# Altium integrated library Diodes - TVS.IntLib: 5379 symbols (part 40 of 122)
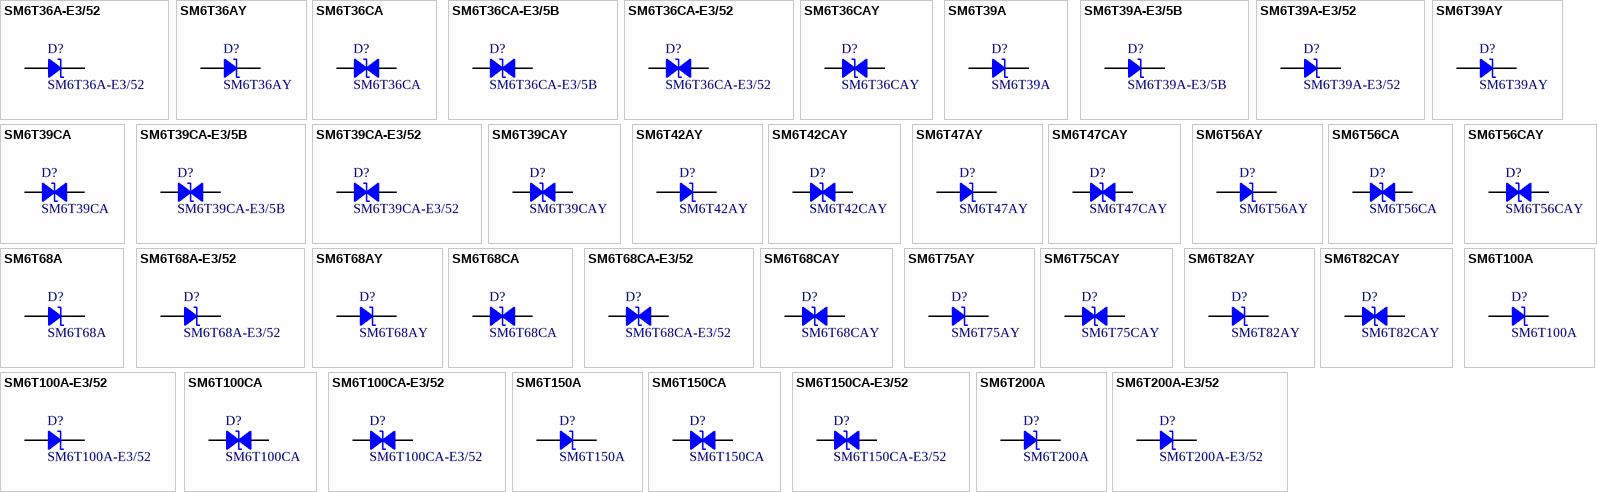
[diagram p173: symbols SM6T36A-E3/52 to SM6T200A-E3/52]

## SM6T39A
designator D?
TVS DIODE 33.3V 69.7V SMB; Manufacturer: STMicroelectronics; Current - Peak Pulse (10/1000µs): 57A (8/20µs); Power Line Protection: No; Power - Peak Pulse: 600W; Type: Zener; Unidirectional Channels: 1; Voltage - Breakdown (Min): 37.1V; Part Number: SM6T39A; Applications: General Purpose; ComponentLink1Description: Datasheet; ComponentLink1URL: http://www.st.com/content/ccc/resource/technical/document/datasheet/6f/2d/a6/9e/56/51/48/15/CD00000725.pdf/files/CD00000725.pdf/jcr:content/translations/en.CD00000725.pdf; ComponentLink2Description: DigiKey Link; ComponentLink2URL: http://digikey.com/product-detail/en/stmicroelectronics/SM6T39A/497-6497-1-ND/1865484; LastUpdated: 9/2/2020 1:19:49 AM; Lifecycle Status: Active; Minimum Order: 1; Mounting Type: Surface Mount; Operating Temperature: -55°C ~ 150°C (TJ); Package / Case: DO-214AA, SMB; Packaging: TapeAndReel; PartId: 11097; Part Status: Active; Price: 0.15; Series: SM6T, TRANSIL™; Supplier 1: DigiKey; Supplier Part Number 1: 497-6497-1-ND; Supplier Device Package: SMB (DO-214AA); Voltage - Clamping (Max) @ Ipp: 69.7V; Voltage - Reverse Standoff (Typ): 33.3V
footprint DO214AA SMB
pins: 1, 2

## SM6T39A-E3/5B
designator D?
TVS DIODE 33.3V 53.9V DO214AA; Manufacturer: Vishay Semiconductor Diodes Division; Current - Peak Pulse (10/1000µs): 11.1A; Power Line Protection: No; Power - Peak Pulse: 600W; Type: Zener; Unidirectional Channels: 1; Voltage - Breakdown (Min): 37.1V; Part Number: SM6T39A-E3/5B; Applications: General Purpose; ComponentLink1Description: Datasheet; ComponentLink1URL: http://www.vishay.com/docs/88385/sm6t.pdf; ComponentLink2Description: DigiKey Link; ComponentLink2URL: http://digikey.com/product-detail/en/vishay-semiconductor-diodes-division/SM6T39A-E3-5B/SM6T39A-E3-5BGICT-ND/9600946; LastUpdated: 9/2/2020 1:19:48 AM; Lifecycle Status: Active; Minimum Order: 1; Mounting Type: Surface Mount; Operating Temperature: -65°C ~ 150°C (TJ); Package / Case: DO-214AA, SMB; Packaging: TapeAndReel; PartId: 11076; Part Status: Active; Price: 0.13; Series: SM6T, TransZorb®; Supplier 1: DigiKey; Supplier Part Number 1: SM6T39A-E3/5BGICT-ND; Supplier Device Package: DO-214AA (SMBJ); Voltage - Clamping (Max) @ Ipp: 53.9V; Voltage - Reverse Standoff (Typ): 33.3V
footprint DO214AA SMB
pins: 1, 2

## SM6T39A-E3/52
designator D?
TVS DIODE 33.3V 53.9V DO214AA; Manufacturer: Vishay Semiconductor Diodes Division; Current - Peak Pulse (10/1000µs): 11.1A; Power Line Protection: No; Power - Peak Pulse: 600W; Type: Zener; Unidirectional Channels: 1; Voltage - Breakdown (Min): 37.1V; Part Number: SM6T39A-E3/52; Applications: General Purpose; ComponentLink1Description: Datasheet; ComponentLink1URL: http://www.vishay.com/docs/88385/sm6t.pdf; ComponentLink2Description: DigiKey Link; ComponentLink2URL: http://digikey.com/product-detail/en/vishay-semiconductor-diodes-division/SM6T39A-E3-52/SM6T39A-E3-52GICT-ND/5639140; LastUpdated: 9/2/2020 1:19:43 AM; Lifecycle Status: Active; Minimum Order: 1; Mounting Type: Surface Mount; Operating Temperature: -65°C ~ 150°C (TJ); Package / Case: DO-214AA, SMB; Packaging: TapeAndReel; PartId: 10594; Part Status: Active; Price: 0.19; Series: SM6T, TransZorb®; Supplier 1: DigiKey; Supplier Part Number 1: SM6T39A-E3/52GICT-ND; Supplier Device Package: DO-214AA (SMBJ); Voltage - Clamping (Max) @ Ipp: 53.9V; Voltage - Reverse Standoff (Typ): 33.3V
footprint DO214AA SMB
pins: 1, 2

## SM6T39AY
designator D?
TVS DIODE 33.3V 69.7V SMB; Manufacturer: STMicroelectronics; Current - Peak Pulse (10/1000µs): 57A (8/20µs); Power Line Protection: No; Power - Peak Pulse: 600W; Type: Zener; Unidirectional Channels: 1; Voltage - Breakdown (Min): 37.1V; Part Number: SM6T39AY; Applications: Automotive; ComponentLink1Description: Datasheet; ComponentLink1URL: http://www.st.com/content/ccc/resource/technical/document/datasheet/7c/00/1c/38/a4/c1/4b/ae/CD00279657.pdf/files/CD00279657.pdf/jcr:content/translations/en.CD00279657.pdf; ComponentLink2Description: DigiKey Link; ComponentLink2URL: http://digikey.com/product-detail/en/stmicroelectronics/SM6T39AY/497-10805-1-ND/2442980; LastUpdated: 9/2/2020 1:19:48 AM; Lifecycle Status: Active; Minimum Order: 1; Mounting Type: Surface Mount; Operating Temperature: -55°C ~ 150°C (TJ); Package / Case: DO-214AA, SMB; Packaging: TapeAndReel; PartId: 11003; Part Status: Active; Price: 0.37; Series: Automotive, AEC-Q101, SM6TY, TRANSIL™; Supplier 1: DigiKey; Supplier Part Number 1: 497-10805-1-ND; Supplier Device Package: SMB (DO-214AA); Voltage - Clamping (Max) @ Ipp: 69.7V; Voltage - Reverse Standoff (Typ): 33.3V
footprint DO214AA SMB
pins: 1, 2

## SM6T39CA
designator D?
TVS DIODE 33.3V 69.7V SMB; Manufacturer: STMicroelectronics; Bidirectional Channels: 1; Current - Peak Pulse (10/1000µs): 57A (8/20µs); Power Line Protection: No; Power - Peak Pulse: 600W; Type: Zener; Voltage - Breakdown (Min): 37.1V; Part Number: SM6T39CA; Applications: General Purpose; ComponentLink1Description: Datasheet; ComponentLink1URL: http://www.st.com/content/ccc/resource/technical/document/datasheet/6f/2d/a6/9e/56/51/48/15/CD00000725.pdf/files/CD00000725.pdf/jcr:content/translations/en.CD00000725.pdf; ComponentLink2Description: DigiKey Link; ComponentLink2URL: http://digikey.com/product-detail/en/stmicroelectronics/SM6T39CA/497-6498-1-ND/1865512; LastUpdated: 9/2/2020 1:28:21 AM; Lifecycle Status: Active; Minimum Order: 1; Mounting Type: Surface Mount; Operating Temperature: -55°C ~ 150°C (TJ); Package / Case: DO-214AA, SMB; Packaging: TapeAndReel; PartId: 9522; Part Status: Active; Price: 0.16; Series: SM6T, TRANSIL™; Supplier 1: DigiKey; Supplier Part Number 1: 497-6498-1-ND; Supplier Device Package: SMB (DO-214AA); Voltage - Clamping (Max) @ Ipp: 69.7V; Voltage - Reverse Standoff (Typ): 33.3V
footprint DO214AA SMB
pins: 1, 2

## SM6T39CA-E3/5B
designator D?
TVS DIODE 33.3V 53.9V DO214AA; Manufacturer: Vishay Semiconductor Diodes Division; Bidirectional Channels: 1; Current - Peak Pulse (10/1000µs): 11.1A; Power Line Protection: No; Power - Peak Pulse: 600W; Type: Zener; Voltage - Breakdown (Min): 37.1V; Part Number: SM6T39CA-E3/5B; Applications: General Purpose; ComponentLink1Description: Datasheet; ComponentLink1URL: http://www.vishay.com/docs/88385/sm6t.pdf; ComponentLink2Description: DigiKey Link; ComponentLink2URL: http://digikey.com/product-detail/en/vishay-semiconductor-diodes-division/SM6T39CA-E3-5B/SM6T39CA-E3-5BGICT-ND/9600947; LastUpdated: 9/2/2020 1:28:19 AM; Lifecycle Status: Active; Minimum Order: 1; Mounting Type: Surface Mount; Operating Temperature: -65°C ~ 150°C (TJ); Package / Case: DO-214AA, SMB; Packaging: TapeAndReel; PartId: 9327; Part Status: Active; Price: 0.14; Series: SM6T, TransZorb®; Supplier 1: DigiKey; Supplier Part Number 1: SM6T39CA-E3/5BGICT-ND; Supplier Device Package: DO-214AA (SMBJ); Voltage - Clamping (Max) @ Ipp: 53.9V; Voltage - Reverse Standoff (Typ): 33.3V
footprint DO214AA SMB
pins: 1, 2

## SM6T39CA-E3/52
designator D?
TVS DIODE 33.3V 53.9V DO214AA; Manufacturer: Vishay Semiconductor Diodes Division; Bidirectional Channels: 1; Current - Peak Pulse (10/1000µs): 11.1A; Power Line Protection: No; Power - Peak Pulse: 600W; Type: Zener; Voltage - Breakdown (Min): 37.1V; Part Number: SM6T39CA-E3/52; Applications: General Purpose; ComponentLink1Description: Datasheet; ComponentLink1URL: http://www.vishay.com/docs/88385/sm6t.pdf; ComponentLink2Description: DigiKey Link; ComponentLink2URL: http://digikey.com/product-detail/en/vishay-semiconductor-diodes-division/SM6T39CA-E3-52/SM6T39CA-E3-52GICT-ND/3711943; LastUpdated: 9/2/2020 1:28:16 AM; Lifecycle Status: Active; Minimum Order: 1; Mounting Type: Surface Mount; Operating Temperature: -65°C ~ 150°C (TJ); Package / Case: DO-214AA, SMB; Packaging: TapeAndReel; PartId: 8924; Part Status: Active; Price: 0.21; Series: SM6T, TransZorb®; Supplier 1: DigiKey; Supplier Part Number 1: SM6T39CA-E3/52GICT-ND; Supplier Device Package: DO-214AA (SMBJ); Voltage - Clamping (Max) @ Ipp: 53.9V; Voltage - Reverse Standoff (Typ): 33.3V
footprint DO214AA SMB
pins: 1, 2

## SM6T39CAY
designator D?
TVS DIODE 33.3V 69.7V SMB; Manufacturer: STMicroelectronics; Bidirectional Channels: 1; Current - Peak Pulse (10/1000µs): 57A (8/20µs); Power Line Protection: No; Power - Peak Pulse: 600W; Type: Zener; Voltage - Breakdown (Min): 37.1V; Part Number: SM6T39CAY; Applications: Automotive; ComponentLink1Description: Datasheet; ComponentLink1URL: http://www.st.com/content/ccc/resource/technical/document/datasheet/7c/00/1c/38/a4/c1/4b/ae/CD00279657.pdf/files/CD00279657.pdf/jcr:content/translations/en.CD00279657.pdf; ComponentLink2Description: DigiKey Link; ComponentLink2URL: http://digikey.com/product-detail/en/stmicroelectronics/SM6T39CAY/497-10806-1-ND/2442959; LastUpdated: 9/2/2020 1:28:21 AM; Lifecycle Status: Active; Minimum Order: 1; Mounting Type: Surface Mount; Operating Temperature: -55°C ~ 150°C (TJ); Package / Case: DO-214AA, SMB; Packaging: TapeAndReel; PartId: 9564; Part Status: Active; Price: 0.39; Series: Automotive, AEC-Q101, SM6TY, TRANSIL™; Supplier 1: DigiKey; Supplier Part Number 1: 497-10806-1-ND; Supplier Device Package: SMB (DO-214AA); Voltage - Clamping (Max) @ Ipp: 69.7V; Voltage - Reverse Standoff (Typ): 33.3V
footprint DO214AA SMB
pins: 1, 2

## SM6T42AY
designator D?
TVS DIODE 36V 76V SMB; Manufacturer: STMicroelectronics; Current - Peak Pulse (10/1000µs): 52A (8/20µs); Power Line Protection: No; Power - Peak Pulse: 600W; Type: Zener; Unidirectional Channels: 1; Voltage - Breakdown (Min): 40V; Part Number: SM6T42AY; Applications: Automotive; ComponentLink1Description: Datasheet; ComponentLink1URL: http://www.st.com/content/ccc/resource/technical/document/datasheet/7c/00/1c/38/a4/c1/4b/ae/CD00279657.pdf/files/CD00279657.pdf/jcr:content/translations/en.CD00279657.pdf; ComponentLink2Description: DigiKey Link; ComponentLink2URL: http://digikey.com/product-detail/en/stmicroelectronics/SM6T42AY/497-11809-1-ND/2756549; LastUpdated: 9/2/2020 1:19:46 AM; Lifecycle Status: Active; Minimum Order: 1; Mounting Type: Surface Mount; Operating Temperature: -55°C ~ 150°C (TJ); Package / Case: DO-214AA, SMB; Packaging: TapeAndReel; PartId: 10848; Part Status: Active; Price: 0.23; Series: Automotive, AEC-Q101, SM6TY, TRANSIL™; Supplier 1: DigiKey; Supplier Part Number 1: 497-11809-1-ND; Supplier Device Package: SMB (DO-214AA); Voltage - Clamping (Max) @ Ipp: 76V; Voltage - Reverse Standoff (Typ): 36V
footprint DO214AA SMB
pins: 1, 2

## SM6T42CAY
designator D?
TVS DIODE 36V 76V SMB; Manufacturer: STMicroelectronics; Bidirectional Channels: 1; Current - Peak Pulse (10/1000µs): 52A (8/20µs); Power Line Protection: No; Power - Peak Pulse: 600W; Type: Zener; Voltage - Breakdown (Min): 40V; Part Number: SM6T42CAY; Applications: Automotive; ComponentLink1Description: Datasheet; ComponentLink1URL: http://www.st.com/content/ccc/resource/technical/document/datasheet/7c/00/1c/38/a4/c1/4b/ae/CD00279657.pdf/files/CD00279657.pdf/jcr:content/translations/en.CD00279657.pdf; ComponentLink2Description: DigiKey Link; ComponentLink2URL: http://digikey.com/product-detail/en/stmicroelectronics/SM6T42CAY/497-12193-1-ND/2826666; LastUpdated: 9/2/2020 1:28:22 AM; Lifecycle Status: Active; Minimum Order: 1; Mounting Type: Surface Mount; Operating Temperature: -55°C ~ 150°C (TJ); Package / Case: DO-214AA, SMB; Packaging: TapeAndReel; PartId: 9680; Part Status: Active; Price: 0.22; Series: Automotive, AEC-Q101, SM6TY, TRANSIL™; Supplier 1: DigiKey; Supplier Part Number 1: 497-12193-1-ND; Supplier Device Package: SMB (DO-214AA); Voltage - Clamping (Max) @ Ipp: 76V; Voltage - Reverse Standoff (Typ): 36V
footprint DO214AA SMB
pins: 1, 2

## SM6T47AY
designator D?
TVS DIODE 40V 84V SMB; Manufacturer: STMicroelectronics; Current - Peak Pulse (10/1000µs): 48A (8/20µs); Power Line Protection: No; Power - Peak Pulse: 600W; Type: Zener; Unidirectional Channels: 1; Voltage - Breakdown (Min): 44.4V; Part Number: SM6T47AY; Applications: Automotive; ComponentLink1Description: Datasheet; ComponentLink1URL: http://www.st.com/content/ccc/resource/technical/document/datasheet/7c/00/1c/38/a4/c1/4b/ae/CD00279657.pdf/files/CD00279657.pdf/jcr:content/translations/en.CD00279657.pdf; ComponentLink2Description: DigiKey Link; ComponentLink2URL: http://digikey.com/product-detail/en/stmicroelectronics/SM6T47AY/497-12194-1-ND/2826667; LastUpdated: 9/2/2020 1:19:43 AM; Lifecycle Status: Active; Minimum Order: 1; Mounting Type: Surface Mount; Operating Temperature: -55°C ~ 150°C (TJ); Package / Case: DO-214AA, SMB; Packaging: TapeAndReel; PartId: 10539; Part Status: Active; Price: 0.20; Series: Automotive, AEC-Q101, SM6TY, TRANSIL™; Supplier 1: DigiKey; Supplier Part Number 1: 497-12194-1-ND; Supplier Device Package: SMB (DO-214AA); Voltage - Clamping (Max) @ Ipp: 84V; Voltage - Reverse Standoff (Typ): 40V
footprint DO214AA SMB
pins: 1, 2

## SM6T47CAY
designator D?
TVS DIODE 40V 84V SMB; Manufacturer: STMicroelectronics; Bidirectional Channels: 1; Current - Peak Pulse (10/1000µs): 48A (8/20µs); Power Line Protection: No; Power - Peak Pulse: 600W; Type: Zener; Voltage - Breakdown (Min): 44.4V; Part Number: SM6T47CAY; Applications: Automotive; ComponentLink1Description: Datasheet; ComponentLink1URL: http://www.st.com/content/ccc/resource/technical/document/datasheet/7c/00/1c/38/a4/c1/4b/ae/CD00279657.pdf/files/CD00279657.pdf/jcr:content/translations/en.CD00279657.pdf; ComponentLink2Description: DigiKey Link; ComponentLink2URL: http://digikey.com/product-detail/en/stmicroelectronics/SM6T47CAY/497-12195-1-ND/2826668; LastUpdated: 9/2/2020 1:28:17 AM; Lifecycle Status: Active; Minimum Order: 1; Mounting Type: Surface Mount; Operating Temperature: -55°C ~ 150°C (TJ); Package / Case: DO-214AA, SMB; Packaging: TapeAndReel; PartId: 9042; Part Status: Active; Price: 0.22; Series: Automotive, AEC-Q101, SM6TY, TRANSIL™; Supplier 1: DigiKey; Supplier Part Number 1: 497-12195-1-ND; Supplier Device Package: SMB (DO-214AA); Voltage - Clamping (Max) @ Ipp: 84V; Voltage - Reverse Standoff (Typ): 40V
footprint DO214AA SMB
pins: 1, 2

## SM6T56AY
designator D?
TVS DIODE 47.6V 100V SMB; Manufacturer: STMicroelectronics; Current - Peak Pulse (10/1000µs): 40A (8/20µs); Power Line Protection: No; Power - Peak Pulse: 600W; Type: Zener; Unidirectional Channels: 1; Voltage - Breakdown (Min): 53.2V; Part Number: SM6T56AY; Applications: Automotive; ComponentLink1Description: Datasheet; ComponentLink1URL: http://www.st.com/content/ccc/resource/technical/document/datasheet/7c/00/1c/38/a4/c1/4b/ae/CD00279657.pdf/files/CD00279657.pdf/jcr:content/translations/en.CD00279657.pdf; ComponentLink2Description: DigiKey Link; ComponentLink2URL: http://digikey.com/product-detail/en/stmicroelectronics/SM6T56AY/497-11810-1-ND/2756550; LastUpdated: 9/2/2020 1:19:46 AM; Lifecycle Status: Active; Minimum Order: 1; Mounting Type: Surface Mount; Operating Temperature: -55°C ~ 150°C (TJ); Package / Case: DO-214AA, SMB; Packaging: TapeAndReel; PartId: 10825; Part Status: Active; Price: 0.23; Series: Automotive, AEC-Q101, SM6TY, TRANSIL™; Supplier 1: DigiKey; Supplier Part Number 1: 497-11810-1-ND; Supplier Device Package: SMB (DO-214AA); Voltage - Clamping (Max) @ Ipp: 100V; Voltage - Reverse Standoff (Typ): 47.6V
footprint DO214AA SMB
pins: 1, 2

## SM6T56CA
designator D?
TVS DIODE 47.6V 100V SMB; Manufacturer: STMicroelectronics; Bidirectional Channels: 1; Current - Peak Pulse (10/1000µs): 40A (8/20µs); Power Line Protection: No; Power - Peak Pulse: 600W; Type: Zener; Voltage - Breakdown (Min): 53.2V; Part Number: SM6T56CA; Applications: General Purpose; ComponentLink1Description: Datasheet; ComponentLink1URL: http://www.st.com/content/ccc/resource/technical/document/datasheet/6f/2d/a6/9e/56/51/48/15/CD00000725.pdf/files/CD00000725.pdf/jcr:content/translations/en.CD00000725.pdf; ComponentLink2Description: DigiKey Link; ComponentLink2URL: http://digikey.com/product-detail/en/stmicroelectronics/SM6T56CA/497-6499-1-ND/1865522; LastUpdated: 9/2/2020 1:28:16 AM; Lifecycle Status: Active; Minimum Order: 1; Mounting Type: Surface Mount; Operating Temperature: -55°C ~ 150°C (TJ); Package / Case: DO-214AA, SMB; Packaging: TapeAndReel; PartId: 8961; Part Status: Active; Price: 0.16; Series: SM6T, TRANSIL™; Supplier 1: DigiKey; Supplier Part Number 1: 497-6499-1-ND; Supplier Device Package: SMB (DO-214AA); Voltage - Clamping (Max) @ Ipp: 100V; Voltage - Reverse Standoff (Typ): 47.6V
footprint DO214AA SMB
pins: 1, 2

## SM6T56CAY
designator D?
TVS DIODE 47.6V 100V SMB; Manufacturer: STMicroelectronics; Bidirectional Channels: 1; Current - Peak Pulse (10/1000µs): 40A (8/20µs); Power Line Protection: No; Power - Peak Pulse: 600W; Type: Zener; Voltage - Breakdown (Min): 53.2V; Part Number: SM6T56CAY; Applications: Automotive; ComponentLink1Description: Datasheet; ComponentLink1URL: http://www.st.com/content/ccc/resource/technical/document/datasheet/7c/00/1c/38/a4/c1/4b/ae/CD00279657.pdf/files/CD00279657.pdf/jcr:content/translations/en.CD00279657.pdf; ComponentLink2Description: DigiKey Link; ComponentLink2URL: http://digikey.com/product-detail/en/stmicroelectronics/SM6T56CAY/497-11811-1-ND/2756544; LastUpdated: 9/2/2020 1:28:18 AM; Lifecycle Status: Active; Minimum Order: 1; Mounting Type: Surface Mount; Operating Temperature: -55°C ~ 150°C (TJ); Package / Case: DO-214AA, SMB; Packaging: TapeAndReel; PartId: 9163; Part Status: Active; Price: 0.24; Series: Automotive, AEC-Q101, SM6TY, TRANSIL™; Supplier 1: DigiKey; Supplier Part Number 1: 497-11811-1-ND; Supplier Device Package: SMB (DO-214AA); Voltage - Clamping (Max) @ Ipp: 100V; Voltage - Reverse Standoff (Typ): 47.6V
footprint DO214AA SMB
pins: 1, 2

## SM6T68A
designator D?
TVS DIODE 58.1V 121V SMB; Manufacturer: STMicroelectronics; Current - Peak Pulse (10/1000µs): 33A (8/20µs); Power Line Protection: No; Power - Peak Pulse: 600W; Type: Zener; Unidirectional Channels: 1; Voltage - Breakdown (Min): 64.6V; Part Number: SM6T68A; Applications: General Purpose; ComponentLink1Description: Datasheet; ComponentLink1URL: http://www.st.com/content/ccc/resource/technical/document/datasheet/6f/2d/a6/9e/56/51/48/15/CD00000725.pdf/files/CD00000725.pdf/jcr:content/translations/en.CD00000725.pdf; ComponentLink2Description: DigiKey Link; ComponentLink2URL: http://digikey.com/product-detail/en/stmicroelectronics/SM6T68A/497-7438-1-ND/1883413; LastUpdated: 9/2/2020 1:19:47 AM; Lifecycle Status: Active; Minimum Order: 1; Mounting Type: Surface Mount; Operating Temperature: -55°C ~ 150°C (TJ); Package / Case: DO-214AA, SMB; Packaging: TapeAndReel; PartId: 10928; Part Status: Active; Price: 0.15; Series: SM6T, TRANSIL™; Supplier 1: DigiKey; Supplier Part Number 1: 497-7438-1-ND; Supplier Device Package: SMB (DO-214AA); Voltage - Clamping (Max) @ Ipp: 121V; Voltage - Reverse Standoff (Typ): 58.1V
footprint DO214AA SMB
pins: 1, 2

## SM6T68A-E3/52
designator D?
TVS DIODE 58.1V 92V DO214AA; Manufacturer: Vishay Semiconductor Diodes Division; Current - Peak Pulse (10/1000µs): 6.5A; Power Line Protection: No; Power - Peak Pulse: 600W; Type: Zener; Unidirectional Channels: 1; Voltage - Breakdown (Min): 64.6V; Part Number: SM6T68A-E3/52; Applications: General Purpose; ComponentLink1Description: Datasheet; ComponentLink1URL: http://www.vishay.com/docs/88385/sm6t.pdf; ComponentLink2Description: DigiKey Link; ComponentLink2URL: http://digikey.com/product-detail/en/vishay-semiconductor-diodes-division/SM6T68A-E3-52/SM6T68A-E3-52GICT-ND/5639141; LastUpdated: 9/2/2020 1:19:43 AM; Lifecycle Status: Active; Minimum Order: 1; Mounting Type: Surface Mount; Operating Temperature: -65°C ~ 150°C (TJ); Package / Case: DO-214AA, SMB; Packaging: TapeAndReel; PartId: 10592; Part Status: Active; Price: 0.19; Series: SM6T, TransZorb®; Supplier 1: DigiKey; Supplier Part Number 1: SM6T68A-E3/52GICT-ND; Supplier Device Package: DO-214AA (SMBJ); Voltage - Clamping (Max) @ Ipp: 92V; Voltage - Reverse Standoff (Typ): 58.1V
footprint DO214AA SMB
pins: 1, 2

## SM6T68AY
designator D?
TVS DIODE 58.1V 121V SMB; Manufacturer: STMicroelectronics; Current - Peak Pulse (10/1000µs): 33A (8/20µs); Power Line Protection: No; Power - Peak Pulse: 600W; Type: Zener; Unidirectional Channels: 1; Voltage - Breakdown (Min): 64.6V; Part Number: SM6T68AY; Applications: Automotive; ComponentLink1Description: Datasheet; ComponentLink1URL: http://www.st.com/content/ccc/resource/technical/document/datasheet/7c/00/1c/38/a4/c1/4b/ae/CD00279657.pdf/files/CD00279657.pdf/jcr:content/translations/en.CD00279657.pdf; ComponentLink2Description: DigiKey Link; ComponentLink2URL: http://digikey.com/product-detail/en/stmicroelectronics/SM6T68AY/497-10937-1-ND/2522560; LastUpdated: 9/2/2020 1:19:50 AM; Lifecycle Status: Active; Minimum Order: 1; Mounting Type: Surface Mount; Operating Temperature: -55°C ~ 150°C (TJ); Package / Case: DO-214AA, SMB; Packaging: TapeAndReel; PartId: 11277; Part Status: Active; Price: 0.39; Series: Automotive, AEC-Q101, SM6TY, TRANSIL™; Supplier 1: DigiKey; Supplier Part Number 1: 497-10937-1-ND; Supplier Device Package: SMB (DO-214AA); Voltage - Clamping (Max) @ Ipp: 121V; Voltage - Reverse Standoff (Typ): 58.1V
footprint DO214AA SMB
pins: 1, 2

## SM6T68CA
designator D?
TVS DIODE 58.1V 121V SMB; Manufacturer: STMicroelectronics; Bidirectional Channels: 1; Current - Peak Pulse (10/1000µs): 33A (8/20µs); Power Line Protection: No; Power - Peak Pulse: 600W; Type: Zener; Voltage - Breakdown (Min): 64.6V; Part Number: SM6T68CA; Applications: General Purpose; ComponentLink1Description: Datasheet; ComponentLink1URL: http://www.st.com/content/ccc/resource/technical/document/datasheet/6f/2d/a6/9e/56/51/48/15/CD00000725.pdf/files/CD00000725.pdf/jcr:content/translations/en.CD00000725.pdf; ComponentLink2Description: DigiKey Link; ComponentLink2URL: http://digikey.com/product-detail/en/stmicroelectronics/SM6T68CA/497-6500-1-ND/1865514; LastUpdated: 9/2/2020 1:28:21 AM; Lifecycle Status: Active; Minimum Order: 1; Mounting Type: Surface Mount; Operating Temperature: -55°C ~ 150°C (TJ); Package / Case: DO-214AA, SMB; Packaging: TapeAndReel; PartId: 9523; Part Status: Active; Price: 0.16; Series: SM6T, TRANSIL™; Supplier 1: DigiKey; Supplier Part Number 1: 497-6500-1-ND; Supplier Device Package: SMB (DO-214AA); Voltage - Clamping (Max) @ Ipp: 121V; Voltage - Reverse Standoff (Typ): 58.1V
footprint DO214AA SMB
pins: 1, 2

## SM6T68CA-E3/52
designator D?
TVS DIODE 58.1V 92V DO214AA; Manufacturer: Vishay Semiconductor Diodes Division; Bidirectional Channels: 1; Current - Peak Pulse (10/1000µs): 6.5A; Power Line Protection: No; Power - Peak Pulse: 600W; Type: Zener; Voltage - Breakdown (Min): 64.6V; Part Number: SM6T68CA-E3/52; Applications: General Purpose; ComponentLink1Description: Datasheet; ComponentLink1URL: http://www.vishay.com/docs/88385/sm6t.pdf; ComponentLink2Description: DigiKey Link; ComponentLink2URL: http://digikey.com/product-detail/en/vishay-semiconductor-diodes-division/SM6T68CA-E3-52/SM6T68CA-E3-52GICT-ND/5639142; LastUpdated: 9/2/2020 1:28:22 AM; Lifecycle Status: Active; Minimum Order: 1; Mounting Type: Surface Mount; Operating Temperature: -65°C ~ 150°C (TJ); Package / Case: DO-214AA, SMB; Packaging: TapeAndReel; PartId: 9682; Part Status: Active; Price: 0.22; Series: SM6T, TransZorb®; Supplier 1: DigiKey; Supplier Part Number 1: SM6T68CA-E3/52GICT-ND; Supplier Device Package: DO-214AA (SMBJ); Voltage - Clamping (Max) @ Ipp: 92V; Voltage - Reverse Standoff (Typ): 58.1V
footprint DO214AA SMB
pins: 1, 2

## SM6T68CAY
designator D?
TVS DIODE 58.1V 121V SMB; Manufacturer: STMicroelectronics; Bidirectional Channels: 1; Current - Peak Pulse (10/1000µs): 33A (8/20µs); Power Line Protection: No; Power - Peak Pulse: 600W; Type: Zener; Voltage - Breakdown (Min): 64.6V; Part Number: SM6T68CAY; Applications: Automotive; ComponentLink1Description: Datasheet; ComponentLink1URL: http://www.st.com/content/ccc/resource/technical/document/datasheet/7c/00/1c/38/a4/c1/4b/ae/CD00279657.pdf/files/CD00279657.pdf/jcr:content/translations/en.CD00279657.pdf; ComponentLink2Description: DigiKey Link; ComponentLink2URL: http://digikey.com/product-detail/en/stmicroelectronics/SM6T68CAY/497-10807-1-ND/2442962; LastUpdated: 9/2/2020 1:28:18 AM; Lifecycle Status: Active; Minimum Order: 1; Mounting Type: Surface Mount; Operating Temperature: -55°C ~ 150°C (TJ); Package / Case: DO-214AA, SMB; Packaging: TapeAndReel; PartId: 9156; Part Status: Active; Price: 0.39; Series: Automotive, AEC-Q101, SM6TY, TRANSIL™; Supplier 1: DigiKey; Supplier Part Number 1: 497-10807-1-ND; Supplier Device Package: SMB (DO-214AA); Voltage - Clamping (Max) @ Ipp: 121V; Voltage - Reverse Standoff (Typ): 58.1V
footprint DO214AA SMB
pins: 1, 2

## SM6T75AY
designator D?
TVS DIODE 64.1V 134V SMB; Manufacturer: STMicroelectronics; Current - Peak Pulse (10/1000µs): 30A (8/20µs); Power Line Protection: No; Power - Peak Pulse: 600W; Type: Zener; Unidirectional Channels: 1; Voltage - Breakdown (Min): 71.3V; Part Number: SM6T75AY; Applications: Automotive; ComponentLink1Description: Datasheet; ComponentLink1URL: http://www.st.com/content/ccc/resource/technical/document/datasheet/7c/00/1c/38/a4/c1/4b/ae/CD00279657.pdf/files/CD00279657.pdf/jcr:content/translations/en.CD00279657.pdf; ComponentLink2Description: DigiKey Link; ComponentLink2URL: http://digikey.com/product-detail/en/stmicroelectronics/SM6T75AY/497-11814-1-ND/2756554; LastUpdated: 9/2/2020 1:19:46 AM; Lifecycle Status: Active; Minimum Order: 1; Mounting Type: Surface Mount; Operating Temperature: -55°C ~ 150°C (TJ); Package / Case: DO-214AA, SMB; Packaging: TapeAndReel; PartId: 10824; Part Status: Active; Price: 0.23; Series: Automotive, AEC-Q101, SM6TY, TRANSIL™; Supplier 1: DigiKey; Supplier Part Number 1: 497-11814-1-ND; Supplier Device Package: SMB (DO-214AA); Voltage - Clamping (Max) @ Ipp: 134V; Voltage - Reverse Standoff (Typ): 64.1V
footprint DO214AA SMB
pins: 1, 2

## SM6T75CAY
designator D?
TVS DIODE 64.1V 134V SMB; Manufacturer: STMicroelectronics; Bidirectional Channels: 1; Current - Peak Pulse (10/1000µs): 30A (8/20µs); Power Line Protection: No; Power - Peak Pulse: 600W; Type: Zener; Voltage - Breakdown (Min): 71.3V; Part Number: SM6T75CAY; Applications: Automotive; ComponentLink1Description: Datasheet; ComponentLink1URL: http://www.st.com/content/ccc/resource/technical/document/datasheet/7c/00/1c/38/a4/c1/4b/ae/CD00279657.pdf/files/CD00279657.pdf/jcr:content/translations/en.CD00279657.pdf; ComponentLink2Description: DigiKey Link; ComponentLink2URL: http://digikey.com/product-detail/en/stmicroelectronics/SM6T75CAY/497-11815-1-ND/2756560; LastUpdated: 9/2/2020 1:28:22 AM; Lifecycle Status: Active; Minimum Order: 1; Mounting Type: Surface Mount; Operating Temperature: -55°C ~ 150°C (TJ); Package / Case: DO-214AA, SMB; Packaging: TapeAndReel; PartId: 9679; Part Status: Active; Price: 0.24; Series: Automotive, AEC-Q101, SM6TY, TRANSIL™; Supplier 1: DigiKey; Supplier Part Number 1: 497-11815-1-ND; Supplier Device Package: SMB (DO-214AA); Voltage - Clamping (Max) @ Ipp: 134V; Voltage - Reverse Standoff (Typ): 64.1V
footprint DO214AA SMB
pins: 1, 2

## SM6T82AY
designator D?
TVS DIODE 70V 146V SMB; Manufacturer: STMicroelectronics; Current - Peak Pulse (10/1000µs): 27A (8/20µs); Power Line Protection: No; Power - Peak Pulse: 600W; Type: Zener; Unidirectional Channels: 1; Voltage - Breakdown (Min): 77.8V; Part Number: SM6T82AY; Applications: Automotive; ComponentLink1Description: Datasheet; ComponentLink1URL: http://www.st.com/content/ccc/resource/technical/document/datasheet/7c/00/1c/38/a4/c1/4b/ae/CD00279657.pdf/files/CD00279657.pdf/jcr:content/translations/en.CD00279657.pdf; ComponentLink2Description: DigiKey Link; ComponentLink2URL: http://digikey.com/product-detail/en/stmicroelectronics/SM6T82AY/497-11817-1-ND/2756556; LastUpdated: 9/2/2020 1:19:43 AM; Lifecycle Status: Active; Minimum Order: 1; Mounting Type: Surface Mount; Operating Temperature: -55°C ~ 150°C (TJ); Package / Case: DO-214AA, SMB; Packaging: TapeAndReel; PartId: 10589; Part Status: Active; Price: 0.23; Series: Automotive, AEC-Q101, SM6TY, TRANSIL™; Supplier 1: DigiKey; Supplier Part Number 1: 497-11817-1-ND; Supplier Device Package: SMB (DO-214AA); Voltage - Clamping (Max) @ Ipp: 146V; Voltage - Reverse Standoff (Typ): 70V
footprint DO214AA SMB
pins: 1, 2

## SM6T82CAY
designator D?
TVS DIODE 70V 146V SMB; Manufacturer: STMicroelectronics; Bidirectional Channels: 1; Current - Peak Pulse (10/1000µs): 27A (8/20µs); Power Line Protection: No; Power - Peak Pulse: 600W; Type: Zener; Voltage - Breakdown (Min): 77.8V; Part Number: SM6T82CAY; Applications: Automotive; ComponentLink1Description: Datasheet; ComponentLink1URL: http://www.st.com/content/ccc/resource/technical/document/datasheet/7c/00/1c/38/a4/c1/4b/ae/CD00279657.pdf/files/CD00279657.pdf/jcr:content/translations/en.CD00279657.pdf; ComponentLink2Description: DigiKey Link; ComponentLink2URL: http://digikey.com/product-detail/en/stmicroelectronics/SM6T82CAY/497-11818-1-ND/2756557; LastUpdated: 9/2/2020 1:28:15 AM; Lifecycle Status: Active; Minimum Order: 1; Mounting Type: Surface Mount; Operating Temperature: -55°C ~ 150°C (TJ); Package / Case: DO-214AA, SMB; Packaging: TapeAndReel; PartId: 8827; Part Status: Active; Price: 0.24; Series: Automotive, AEC-Q101, SM6TY, TRANSIL™; Supplier 1: DigiKey; Supplier Part Number 1: 497-11818-1-ND; Supplier Device Package: SMB (DO-214AA); Voltage - Clamping (Max) @ Ipp: 146V; Voltage - Reverse Standoff (Typ): 70V
footprint DO214AA SMB
pins: 1, 2

## SM6T100A
designator D?
TVS DIODE 85.5V 178V SMB; Manufacturer: STMicroelectronics; Current - Peak Pulse (10/1000µs): 22.5A (8/20µs); Power Line Protection: No; Power - Peak Pulse: 600W; Type: Zener; Unidirectional Channels: 1; Voltage - Breakdown (Min): 95V; Part Number: SM6T100A; Applications: General Purpose; ComponentLink1Description: Datasheet; ComponentLink1URL: http://www.st.com/content/ccc/resource/technical/document/datasheet/6f/2d/a6/9e/56/51/48/15/CD00000725.pdf/files/CD00000725.pdf/jcr:content/translations/en.CD00000725.pdf; ComponentLink2Description: DigiKey Link; ComponentLink2URL: http://digikey.com/product-detail/en/stmicroelectronics/SM6T100A/497-7426-1-ND/1883407; LastUpdated: 9/2/2020 1:19:47 AM; Lifecycle Status: Active; Minimum Order: 1; Mounting Type: Surface Mount; Operating Temperature: -55°C ~ 150°C (TJ); Package / Case: DO-214AA, SMB; Packaging: TapeAndReel; PartId: 10927; Part Status: Active; Price: 0.15; Series: SM6T, TRANSIL™; Supplier 1: DigiKey; Supplier Part Number 1: 497-7426-1-ND; Supplier Device Package: SMB (DO-214AA); Voltage - Clamping (Max) @ Ipp: 178V; Voltage - Reverse Standoff (Typ): 85.5V
footprint DO214AA SMB
pins: 1, 2

## SM6T100A-E3/52
designator D?
TVS DIODE 85.5V 137V DO214AA; Manufacturer: Vishay Semiconductor Diodes Division; Current - Peak Pulse (10/1000µs): 4.4A; Power Line Protection: No; Power - Peak Pulse: 600W; Type: Zener; Unidirectional Channels: 1; Voltage - Breakdown (Min): 95V; Part Number: SM6T100A-E3/52; Applications: General Purpose; ComponentLink1Description: Datasheet; ComponentLink1URL: http://www.vishay.com/docs/88385/sm6t.pdf; ComponentLink2Description: DigiKey Link; ComponentLink2URL: http://digikey.com/product-detail/en/vishay-semiconductor-diodes-division/SM6T100A-E3-52/SM6T100A-E3-52GICT-ND/5639121; LastUpdated: 9/2/2020 1:19:48 AM; Lifecycle Status: Active; Minimum Order: 1; Mounting Type: Surface Mount; Operating Temperature: -65°C ~ 150°C (TJ); Package / Case: DO-214AA, SMB; Packaging: TapeAndReel; PartId: 11060; Part Status: Active; Price: 0.19; Series: SM6T, TransZorb®; Supplier 1: DigiKey; Supplier Part Number 1: SM6T100A-E3/52GICT-ND; Supplier Device Package: DO-214AA (SMBJ); Voltage - Clamping (Max) @ Ipp: 137V; Voltage - Reverse Standoff (Typ): 85.5V
footprint DO214AA SMB
pins: 1, 2

## SM6T100CA
designator D?
TVS DIODE 85.5V 178V SMB; Manufacturer: STMicroelectronics; Bidirectional Channels: 1; Current - Peak Pulse (10/1000µs): 22.5A (8/20µs); Power Line Protection: No; Power - Peak Pulse: 600W; Type: Zener; Voltage - Breakdown (Min): 95V; Part Number: SM6T100CA; Applications: General Purpose; ComponentLink1Description: Datasheet; ComponentLink1URL: http://www.st.com/content/ccc/resource/technical/document/datasheet/6f/2d/a6/9e/56/51/48/15/CD00000725.pdf/files/CD00000725.pdf/jcr:content/translations/en.CD00000725.pdf; ComponentLink2Description: DigiKey Link; ComponentLink2URL: http://digikey.com/product-detail/en/stmicroelectronics/SM6T100CA/497-7880-1-ND/1883627; LastUpdated: 9/2/2020 1:28:21 AM; Lifecycle Status: Active; Minimum Order: 1; Mounting Type: Surface Mount; Operating Temperature: -55°C ~ 150°C (TJ); Package / Case: DO-214AA, SMB; Packaging: TapeAndReel; PartId: 9516; Part Status: Active; Price: 0.16; Series: SM6T, TRANSIL™; Supplier 1: DigiKey; Supplier Part Number 1: 497-7880-1-ND; Supplier Device Package: SMB (DO-214AA); Voltage - Clamping (Max) @ Ipp: 178V; Voltage - Reverse Standoff (Typ): 85.5V
footprint DO214AA SMB
pins: 1, 2

## SM6T100CA-E3/52
designator D?
TVS DIODE 85.5V 137V DO214AA; Manufacturer: Vishay Semiconductor Diodes Division; Bidirectional Channels: 1; Current - Peak Pulse (10/1000µs): 4.4A; Power Line Protection: No; Power - Peak Pulse: 600W; Type: Zener; Voltage - Breakdown (Min): 95V; Part Number: SM6T100CA-E3/52; Applications: General Purpose; ComponentLink1Description: Datasheet; ComponentLink1URL: http://www.vishay.com/docs/88385/sm6t.pdf; ComponentLink2Description: DigiKey Link; ComponentLink2URL: http://digikey.com/product-detail/en/vishay-semiconductor-diodes-division/SM6T100CA-E3-52/SM6T100CA-E3-52GICT-ND/5639122; LastUpdated: 9/2/2020 1:28:19 AM; Lifecycle Status: Active; Minimum Order: 1; Mounting Type: Surface Mount; Operating Temperature: -65°C ~ 150°C (TJ); Package / Case: DO-214AA, SMB; Packaging: TapeAndReel; PartId: 9319; Part Status: Active; Price: 0.22; Series: SM6T, TransZorb®; Supplier 1: DigiKey; Supplier Part Number 1: SM6T100CA-E3/52GICT-ND; Supplier Device Package: DO-214AA (SMBJ); Voltage - Clamping (Max) @ Ipp: 137V; Voltage - Reverse Standoff (Typ): 85.5V
footprint DO214AA SMB
pins: 1, 2

## SM6T150A
designator D?
TVS DIODE 128V 265V SMB; Manufacturer: STMicroelectronics; Current - Peak Pulse (10/1000µs): 15A (8/20µs); Power Line Protection: No; Power - Peak Pulse: 600W; Type: Zener; Unidirectional Channels: 1; Voltage - Breakdown (Min): 143V; Part Number: SM6T150A; Applications: General Purpose; ComponentLink1Description: Datasheet; ComponentLink1URL: http://www.st.com/content/ccc/resource/technical/document/datasheet/6f/2d/a6/9e/56/51/48/15/CD00000725.pdf/files/CD00000725.pdf/jcr:content/translations/en.CD00000725.pdf; ComponentLink2Description: DigiKey Link; ComponentLink2URL: http://digikey.com/product-detail/en/stmicroelectronics/SM6T150A/497-7429-1-ND/1883401; LastUpdated: 9/2/2020 1:19:49 AM; Lifecycle Status: Active; Minimum Order: 1; Mounting Type: Surface Mount; Operating Temperature: -55°C ~ 150°C (TJ); Package / Case: DO-214AA, SMB; Packaging: TapeAndReel; PartId: 11127; Part Status: Active; Price: 0.14; Series: SM6T, TRANSIL™; Supplier 1: DigiKey; Supplier Part Number 1: 497-7429-1-ND; Supplier Device Package: SMB (DO-214AA); Voltage - Clamping (Max) @ Ipp: 265V; Voltage - Reverse Standoff (Typ): 128V
footprint DO214AA SMB
pins: 1, 2

## SM6T150CA
designator D?
TVS DIODE 128V 265V SMB; Manufacturer: STMicroelectronics; Bidirectional Channels: 1; Current - Peak Pulse (10/1000µs): 15A (8/20µs); Power Line Protection: No; Power - Peak Pulse: 600W; Type: Zener; Voltage - Breakdown (Min): 143V; Part Number: SM6T150CA; Applications: General Purpose; ComponentLink1Description: Datasheet; ComponentLink1URL: http://www.st.com/content/ccc/resource/technical/document/datasheet/6f/2d/a6/9e/56/51/48/15/CD00000725.pdf/files/CD00000725.pdf/jcr:content/translations/en.CD00000725.pdf; ComponentLink2Description: DigiKey Link; ComponentLink2URL: http://digikey.com/product-detail/en/stmicroelectronics/SM6T150CA/497-7881-1-ND/1883629; LastUpdated: 9/2/2020 1:28:21 AM; Lifecycle Status: Active; Minimum Order: 1; Mounting Type: Surface Mount; Operating Temperature: -55°C ~ 150°C (TJ); Package / Case: DO-214AA, SMB; Packaging: TapeAndReel; PartId: 9519; Part Status: Active; Price: 0.16; Series: SM6T, TRANSIL™; Supplier 1: DigiKey; Supplier Part Number 1: 497-7881-1-ND; Supplier Device Package: SMB (DO-214AA); Voltage - Clamping (Max) @ Ipp: 265V; Voltage - Reverse Standoff (Typ): 128V
footprint DO214AA SMB
pins: 1, 2

## SM6T150CA-E3/52
designator D?
TVS DIODE 128V 207V DO214AA; Manufacturer: Vishay Semiconductor Diodes Division; Bidirectional Channels: 1; Current - Peak Pulse (10/1000µs): 2.9A; Power Line Protection: No; Power - Peak Pulse: 600W; Type: Zener; Voltage - Breakdown (Min): 143V; Part Number: SM6T150CA-E3/52; Applications: General Purpose; ComponentLink1Description: Datasheet; ComponentLink1URL: http://www.vishay.com/docs/88385/sm6t.pdf; ComponentLink2Description: DigiKey Link; ComponentLink2URL: http://digikey.com/product-detail/en/vishay-semiconductor-diodes-division/SM6T150CA-E3-52/SM6T150CA-E3-52GICT-ND/5639128; LastUpdated: 9/2/2020 1:28:21 AM; Lifecycle Status: Active; Minimum Order: 1; Mounting Type: Surface Mount; Operating Temperature: -65°C ~ 150°C (TJ); Package / Case: DO-214AA, SMB; Packaging: TapeAndReel; PartId: 9602; Part Status: Active; Price: 0.22; Series: SM6T, TransZorb®; Supplier 1: DigiKey; Supplier Part Number 1: SM6T150CA-E3/52GICT-ND; Supplier Device Package: DO-214AA (SMBJ); Voltage - Clamping (Max) @ Ipp: 207V; Voltage - Reverse Standoff (Typ): 128V
footprint DO214AA SMB
pins: 1, 2

## SM6T200A
designator D?
TVS DIODE 171V 353V SMB; Manufacturer: STMicroelectronics; Current - Peak Pulse (10/1000µs): 11.3A (8/20µs); Power Line Protection: No; Power - Peak Pulse: 600W; Type: Zener; Unidirectional Channels: 1; Voltage - Breakdown (Min): 190V; Part Number: SM6T200A; Applications: General Purpose; ComponentLink1Description: Datasheet; ComponentLink1URL: http://www.st.com/content/ccc/resource/technical/document/datasheet/6f/2d/a6/9e/56/51/48/15/CD00000725.pdf/files/CD00000725.pdf/jcr:content/translations/en.CD00000725.pdf; ComponentLink2Description: DigiKey Link; ComponentLink2URL: http://digikey.com/product-detail/en/stmicroelectronics/SM6T200A/497-6490-1-ND/1865478; LastUpdated: 9/2/2020 1:19:44 AM; Lifecycle Status: Active; Minimum Order: 1; Mounting Type: Surface Mount; Operating Temperature: -55°C ~ 150°C (TJ); Package / Case: DO-214AA, SMB; Packaging: TapeAndReel; PartId: 10623; Part Status: Active; Price: 0.15; Series: SM6T, TRANSIL™; Supplier 1: DigiKey; Supplier Part Number 1: 497-6490-1-ND; Supplier Device Package: SMB (DO-214AA); Voltage - Clamping (Max) @ Ipp: 353V; Voltage - Reverse Standoff (Typ): 171V
footprint DO214AA SMB
pins: 1, 2

## SM6T200A-E3/52
designator D?
TVS DIODE 171V 274V DO214AA; Manufacturer: Vishay Semiconductor Diodes Division; Current - Peak Pulse (10/1000µs): 2.2A; Power Line Protection: No; Power - Peak Pulse: 600W; Type: Zener; Unidirectional Channels: 1; Voltage - Breakdown (Min): 190V; Part Number: SM6T200A-E3/52; Applications: General Purpose; ComponentLink1Description: Datasheet; ComponentLink1URL: http://www.vishay.com/docs/88385/sm6t.pdf; ComponentLink2Description: DigiKey Link; ComponentLink2URL: http://digikey.com/product-detail/en/vishay-semiconductor-diodes-division/SM6T200A-E3-52/SM6T200A-E3-52GICT-ND/5639129; LastUpdated: 9/2/2020 1:19:49 AM; Lifecycle Status: Active; Minimum Order: 1; Mounting Type: Surface Mount; Operating Temperature: -65°C ~ 150°C (TJ); Package / Case: DO-214AA, SMB; Packaging: TapeAndReel; PartId: 11159; Part Status: Active; Price: 0.19; Series: SM6T, TransZorb®; Supplier 1: DigiKey; Supplier Part Number 1: SM6T200A-E3/52GICT-ND; Supplier Device Package: DO-214AA (SMBJ); Voltage - Clamping (Max) @ Ipp: 274V; Voltage - Reverse Standoff (Typ): 171V
footprint DO214AA SMB
pins: 1, 2

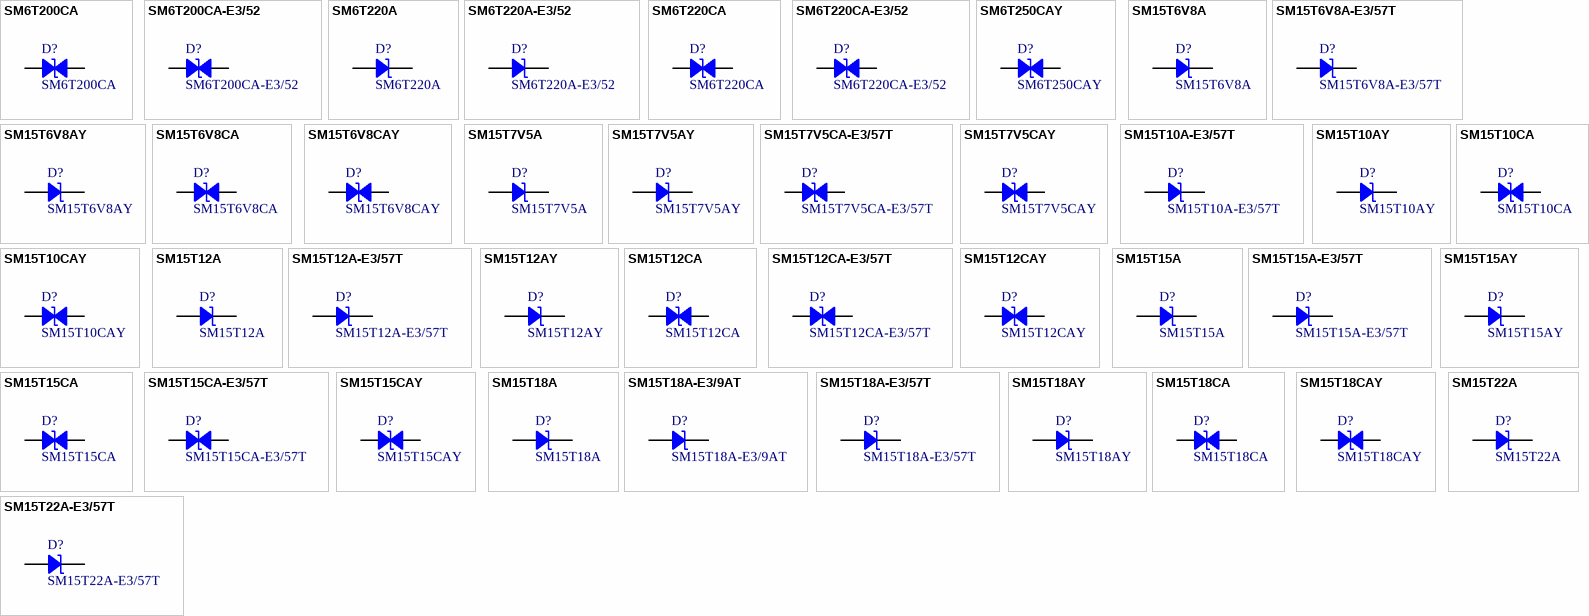
[diagram p44: symbols SM6T200CA to SM15T22A-E3/57T]

## SM6T200CA
designator D?
TVS DIODE 171V 353V SMB; Manufacturer: STMicroelectronics; Bidirectional Channels: 1; Current - Peak Pulse (10/1000µs): 11.3A (8/20µs); Power Line Protection: No; Power - Peak Pulse: 600W; Type: Zener; Voltage - Breakdown (Min): 190V; Part Number: SM6T200CA; Applications: General Purpose; ComponentLink1Description: Datasheet; ComponentLink1URL: http://www.st.com/content/ccc/resource/technical/document/datasheet/6f/2d/a6/9e/56/51/48/15/CD00000725.pdf/files/CD00000725.pdf/jcr:content/translations/en.CD00000725.pdf; ComponentLink2Description: DigiKey Link; ComponentLink2URL: http://digikey.com/product-detail/en/stmicroelectronics/SM6T200CA/497-7882-1-ND/1883632; LastUpdated: 9/2/2020 1:28:16 AM; Lifecycle Status: Active; Minimum Order: 1; Mounting Type: Surface Mount; Operating Temperature: -55°C ~ 150°C (TJ); Package / Case: DO-214AA, SMB; Packaging: TapeAndReel; PartId: 8962; Part Status: Active; Price: 0.16; Series: SM6T, TRANSIL™; Supplier 1: DigiKey; Supplier Part Number 1: 497-7882-1-ND; Supplier Device Package: SMB (DO-214AA); Voltage - Clamping (Max) @ Ipp: 353V; Voltage - Reverse Standoff (Typ): 171V
footprint DO214AA SMB
pins: 1, 2

## SM6T200CA-E3/52
designator D?
TVS DIODE 171V 274V DO214AA; Manufacturer: Vishay Semiconductor Diodes Division; Bidirectional Channels: 1; Current - Peak Pulse (10/1000µs): 2.2A; Power Line Protection: No; Power - Peak Pulse: 600W; Type: Zener; Voltage - Breakdown (Min): 190V; Part Number: SM6T200CA-E3/52; Applications: General Purpose; ComponentLink1Description: Datasheet; ComponentLink1URL: http://www.vishay.com/docs/88385/sm6t.pdf; ComponentLink2Description: DigiKey Link; ComponentLink2URL: http://digikey.com/product-detail/en/vishay-semiconductor-diodes-division/SM6T200CA-E3-52/SM6T200CA-E3-52GICT-ND/5639130; LastUpdated: 9/2/2020 1:28:22 AM; Lifecycle Status: Active; Minimum Order: 1; Mounting Type: Surface Mount; Operating Temperature: -65°C ~ 150°C (TJ); Package / Case: DO-214AA, SMB; Packaging: TapeAndReel; PartId: 9685; Part Status: Active; Price: 0.22; Series: SM6T, TransZorb®; Supplier 1: DigiKey; Supplier Part Number 1: SM6T200CA-E3/52GICT-ND; Supplier Device Package: DO-214AA (SMBJ); Voltage - Clamping (Max) @ Ipp: 274V; Voltage - Reverse Standoff (Typ): 171V
footprint DO214AA SMB
pins: 1, 2

## SM6T220A
designator D?
TVS DIODE 188V 388V SMB; Manufacturer: STMicroelectronics; Current - Peak Pulse (10/1000µs): 10.3A (8/20µs); Power Line Protection: No; Power - Peak Pulse: 600W; Type: Zener; Unidirectional Channels: 1; Voltage - Breakdown (Min): 209V; Part Number: SM6T220A; Applications: General Purpose; ComponentLink1Description: Datasheet; ComponentLink1URL: http://www.st.com/content/ccc/resource/technical/document/datasheet/6f/2d/a6/9e/56/51/48/15/CD00000725.pdf/files/CD00000725.pdf/jcr:content/translations/en.CD00000725.pdf; ComponentLink2Description: DigiKey Link; ComponentLink2URL: http://digikey.com/product-detail/en/stmicroelectronics/SM6T220A/497-7432-1-ND/1883868; LastUpdated: 9/2/2020 1:19:44 AM; Lifecycle Status: Active; Minimum Order: 1; Mounting Type: Surface Mount; Operating Temperature: -55°C ~ 150°C (TJ); Package / Case: DO-214AA, SMB; Packaging: TapeAndReel; PartId: 10644; Part Status: Active; Price: 0.14; Series: SM6T, TRANSIL™; Supplier 1: DigiKey; Supplier Part Number 1: 497-7432-1-ND; Supplier Device Package: SMB (DO-214AA); Voltage - Clamping (Max) @ Ipp: 388V; Voltage - Reverse Standoff (Typ): 188V
footprint DO214AA SMB
pins: 1, 2

## SM6T220A-E3/52
designator D?
TVS DIODE 188V 328V DO214AA; Manufacturer: Vishay Semiconductor Diodes Division; Current - Peak Pulse (10/1000µs): 2A; Power Line Protection: No; Power - Peak Pulse: 600W; Type: Zener; Unidirectional Channels: 1; Voltage - Breakdown (Min): 209V; Part Number: SM6T220A-E3/52; Applications: General Purpose; ComponentLink1Description: Datasheet; ComponentLink1URL: http://www.vishay.com/docs/88385/sm6t.pdf; ComponentLink2Description: DigiKey Link; ComponentLink2URL: http://digikey.com/product-detail/en/vishay-semiconductor-diodes-division/SM6T220A-E3-52/SM6T220A-E3-52GICT-ND/5639131; LastUpdated: 9/2/2020 1:19:48 AM; Lifecycle Status: Active; Minimum Order: 1; Mounting Type: Surface Mount; Operating Temperature: -65°C ~ 150°C (TJ); Package / Case: DO-214AA, SMB; Packaging: TapeAndReel; PartId: 11059; Part Status: Active; Price: 0.19; Series: SM6T, TransZorb®; Supplier 1: DigiKey; Supplier Part Number 1: SM6T220A-E3/52GICT-ND; Supplier Device Package: DO-214AA (SMBJ); Voltage - Clamping (Max) @ Ipp: 328V; Voltage - Reverse Standoff (Typ): 188V
footprint DO214AA SMB
pins: 1, 2

## SM6T220CA
designator D?
TVS DIODE 188V 388V SMB; Manufacturer: STMicroelectronics; Bidirectional Channels: 1; Current - Peak Pulse (10/1000µs): 10.3A (8/20µs); Power Line Protection: No; Power - Peak Pulse: 600W; Type: Zener; Voltage - Breakdown (Min): 209V; Part Number: SM6T220CA; Applications: General Purpose; ComponentLink1Description: Datasheet; ComponentLink1URL: http://www.st.com/content/ccc/resource/technical/document/datasheet/6f/2d/a6/9e/56/51/48/15/CD00000725.pdf/files/CD00000725.pdf/jcr:content/translations/en.CD00000725.pdf; ComponentLink2Description: DigiKey Link; ComponentLink2URL: http://digikey.com/product-detail/en/stmicroelectronics/SM6T220CA/497-12520-1-ND/2864675; LastUpdated: 9/2/2020 1:28:16 AM; Lifecycle Status: Active; Minimum Order: 1; Mounting Type: Surface Mount; Operating Temperature: -55°C ~ 150°C (TJ); Package / Case: DO-214AA, SMB; Packaging: TapeAndReel; PartId: 8963; Part Status: Active; Price: 0.16; Series: SM6T, TRANSIL™; Supplier 1: DigiKey; Supplier Part Number 1: 497-12520-1-ND; Supplier Device Package: SMB (DO-214AA); Voltage - Clamping (Max) @ Ipp: 388V; Voltage - Reverse Standoff (Typ): 188V
footprint DO214AA SMB
pins: 1, 2

## SM6T220CA-E3/52
designator D?
TVS DIODE 188V 328V DO214AA; Manufacturer: Vishay Semiconductor Diodes Division; Bidirectional Channels: 1; Current - Peak Pulse (10/1000µs): 2A; Power Line Protection: No; Power - Peak Pulse: 600W; Type: Zener; Voltage - Breakdown (Min): 209V; Part Number: SM6T220CA-E3/52; Applications: General Purpose; ComponentLink1Description: Datasheet; ComponentLink1URL: http://www.vishay.com/docs/88385/sm6t.pdf; ComponentLink2Description: DigiKey Link; ComponentLink2URL: http://digikey.com/product-detail/en/vishay-semiconductor-diodes-division/SM6T220CA-E3-52/SM6T220CA-E3-52GICT-ND/3711941; LastUpdated: 9/2/2020 1:28:16 AM; Lifecycle Status: Active; Minimum Order: 1; Mounting Type: Surface Mount; Operating Temperature: -65°C ~ 150°C (TJ); Package / Case: DO-214AA, SMB; Packaging: TapeAndReel; PartId: 8922; Part Status: Active; Price: 0.21; Series: SM6T, TransZorb®; Supplier 1: DigiKey; Supplier Part Number 1: SM6T220CA-E3/52GICT-ND; Supplier Device Package: DO-214AA (SMBJ); Voltage - Clamping (Max) @ Ipp: 328V; Voltage - Reverse Standoff (Typ): 188V
footprint DO214AA SMB
pins: 1, 2

## SM6T250CAY
designator D?
TVS DIODE 213V 344V SMB; Manufacturer: STMicroelectronics; Bidirectional Channels: 1; Current - Peak Pulse (10/1000µs): 1.75A; Power Line Protection: No; Power - Peak Pulse: 600W; Type: Zener; Voltage - Breakdown (Min): 237V; Part Number: SM6T250CAY; Applications: Automotive; ComponentLink1Description: Datasheet; ComponentLink1URL: http://www.st.com/content/ccc/resource/technical/document/datasheet/e4/e4/34/e7/7d/ab/49/64/DM00166232.pdf/files/DM00166232.pdf/jcr:content/translations/en.DM00166232.pdf; ComponentLink2Description: DigiKey Link; ComponentLink2URL: http://digikey.com/product-detail/en/stmicroelectronics/SM6T250CAY/497-16031-1-ND/5455742; LastUpdated: 9/2/2020 1:28:17 AM; Lifecycle Status: Active; Minimum Order: 1; Mounting Type: Surface Mount; Operating Temperature: -55°C ~ 175°C (TJ); Package / Case: DO-214AA, SMB; Packaging: TapeAndReel; PartId: 9044; Part Status: Active; Price: 0.20; Series: Automotive, AEC-Q101, SM6TY, TRANSIL™; Supplier 1: DigiKey; Supplier Part Number 1: 497-16031-1-ND; Supplier Device Package: SMB (DO-214AA); Voltage - Clamping (Max) @ Ipp: 344V; Voltage - Reverse Standoff (Typ): 213V
footprint DO214AA SMB
pins: 1, 2

## SM15T6V8A
designator D?
TVS DIODE 5.8V 13.4V SMC; Manufacturer: STMicroelectronics; Current - Peak Pulse (10/1000µs): 746A (8/20µs); Power Line Protection: No; Power - Peak Pulse: 1500W (1.5kW); Type: Zener; Unidirectional Channels: 1; Voltage - Breakdown (Min): 6.45V; Part Number: SM15T6V8A; Applications: General Purpose; ComponentLink1Description: Datasheet; ComponentLink1URL: http://www.st.com/content/ccc/resource/technical/document/datasheet/a5/63/bb/0d/f0/b8/44/65/CD00000724.pdf/files/CD00000724.pdf/jcr:content/translations/en.CD00000724.pdf; ComponentLink2Description: DigiKey Link; ComponentLink2URL: http://digikey.com/product-detail/en/stmicroelectronics/SM15T6V8A/497-6487-1-ND/1865460; LastUpdated: 9/2/2020 1:20:04 AM; Lifecycle Status: Active; Minimum Order: 1; Mounting Type: Surface Mount; Operating Temperature: -55°C ~ 150°C (TJ); Package / Case: DO-214AB, SMC; Packaging: TapeAndReel; PartId: 6876; Part Status: Active; Price: 0.34; Series: SM15T, TRANSIL™; Supplier 1: DigiKey; Supplier Part Number 1: 497-6487-1-ND; Supplier Device Package: SMC; Voltage - Clamping (Max) @ Ipp: 13.4V; Voltage - Reverse Standoff (Typ): 5.8V
footprint DO214AB SMC
pins: 1, 2